# EAGLE library part SN74LVC2T45 (library balto)
SN74LVC2T45 Dual-Bit Dual-Supply Bus Transceiver With Configurable Voltage Translation
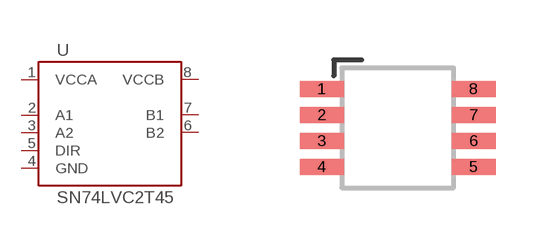
[diagram p81: symbol with the pads of VSSOP8; footprint VSSOP8]

Designator prefix U

## SN74LVC2T45DCU  [VSSOP8]
1  VCCA
2  A1
3  A2
4  GND
5  DIR
6  B2
7  B1
8  VCCB

## Footprint VSSOP8 (pad centres in mm)
VSSOP8
smd 1.1 x 0.4: 1 -1.9,0.975; 2 -1.9,0.325; 3 -1.9,-0.325; 4 -1.9,-0.975; 5 1.9,-0.975; 6 1.9,-0.325; 7 1.9,0.325; 8 1.9,0.975